# EAGLE library part MCP23S08 (library IC)
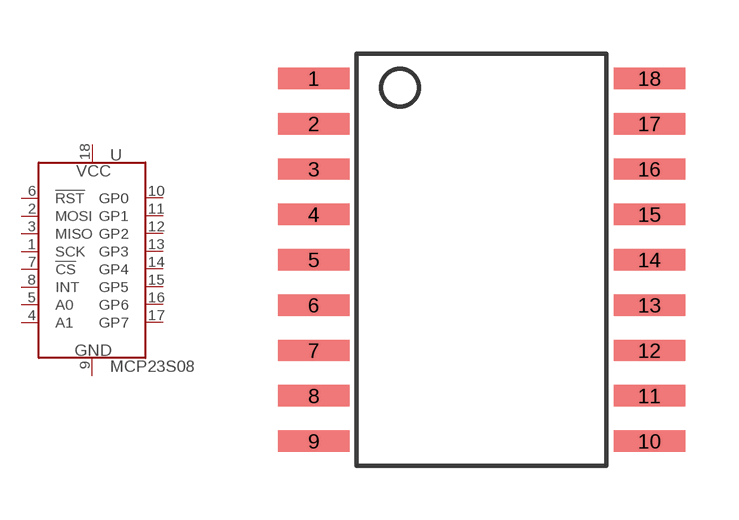
[diagram p10: symbol with the pads of SOIC-7.5MM-18; footprint SOIC-7.5MM-18]

Designator prefix U

## MCP23S08SOIC (MPN: MCP23S08-E/SO)  [SOIC-7.5MM-18]
1  SCK
2  MOSI
3  MISO
4  A1
5  A0
6  !RST
7  !CS
8  INT
9  VDD
10  GP0
11  GP1
12  GP2
13  GP3
14  GP4
15  GP5
16  GP6
17  GP7
18  VCC

## Footprint SOIC-7.5MM-18 (pad centres in mm)
smd 2 x 0.6: 1 -4.7,5.101; 2 -4.7,3.832; 3 -4.7,2.562; 4 -4.7,1.292; 5 -4.7,0.021; 6 -4.7,-1.248; 7 -4.7,-2.518; 8 -4.7,-3.788; 9 -4.7,-5.059; 10 4.7,-5.059; 11 4.7,-3.788; 12 4.7,-2.518; 13 4.7,-1.248; 14 4.7,0.021; 15 4.7,1.292; 16 4.7,2.562; 17 4.7,3.832; 18 4.7,5.101